# Altium schematic symbol library Schlib1.SchLib: 15 symbols
Pins are listed as number, name and electrical type; pins without a type are passive.

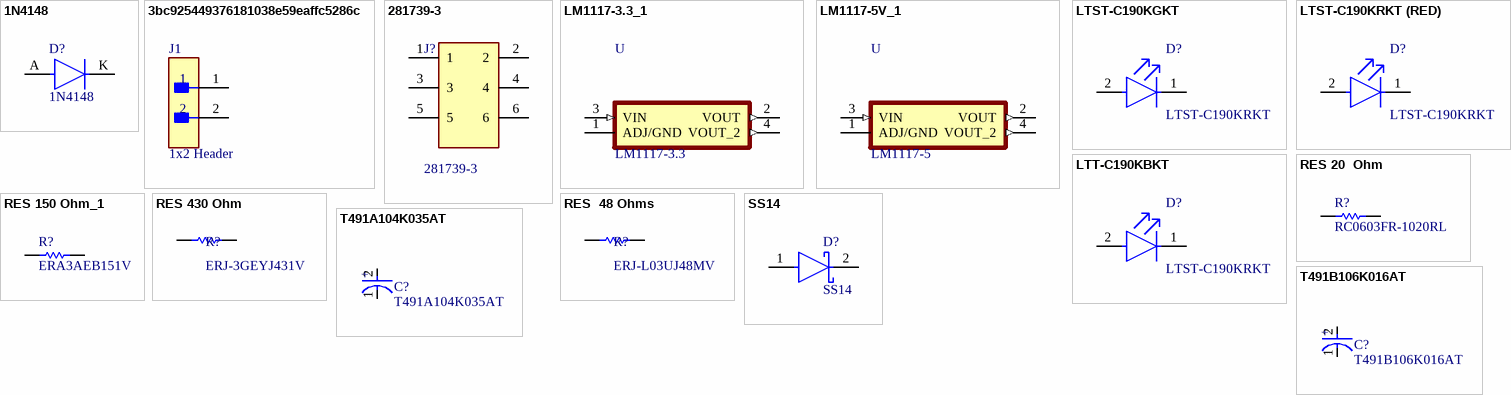
[diagram p0: symbols 1N4148 to T491B106K016AT]

## 1N4148
designator D?
DIODE GEN PURP 100V 200MA DO35; Forward Voltage: 1V; Max Power Dissipation: 500mW; Max Reverse Current: 5uA; Forward Current: 300mA; Current: 4A; Reverse Recovery Time: 4ns; Element Configuration: Single; Outside Diameter: 1.85mm; Capacitance: 4pF; Polarity: Standard; Max Forward Surge Current (Ifsm): 1A; Reverse Voltage: 100V; Output Current: 200mA; Average Rectified Current: 200mA; Diameter: 1.91mm; Max Repetitive Reverse Voltage (Vrrm): 100V; Current Rating: 200mA; Case/Package: DO-35; Lead Free: Lead Free; Number of Pins: 2; Recovery Time: 4ns; Packaging: Bulk; Contact Plating: Tin; Voltage: 100V; Mount: Through Hole; Max Surge Current: 4A; Package Quantity: 2000; Width: 1.91mm; Max Reverse Voltage (DC): 100V; Length: 4.56mm; Radiation Hardening: No; Power Dissipation: 500mW; Voltage Rating (DC): 100V; Peak Non-Repetitive Surge Current: 4A; REACH SVHC: No SVHC; Height: 4.56mm; Max Operating Temperature: 175°C; Series: -; Weight: 0.01lb; Min Operating Temperature: -65°C
footprint DIOAD753W49L380D172B
pins: A, K C

## 3bc925449376181038e59eaffc5286c
designator J1, comment 1x2 Header
CONN HEADER R/A 2POS 2MM; Max Current Rating: 3A; Number of Contacts: 2; Voltage Rating: 120V; Gender: Male; Contact Resistance: 25mR; Insulation Resistance: 100MR; Connector Type: Plug; Contact Material: Bronze; Radiation Hardening: No; Pitch: 2mm; Contact Plating: Gold; Package Quantity: 32; Current Rating: 3A; REACH SVHC: No SVHC; Housing Material: Polyamide; Max Operating Temperature: 125°C; Min Operating Temperature: -55°C; Number of Rows: 1; RoHS Compliant: Yes; Housing Color: Black; Fastening Type: Latch; Color: Black; Contact Gender: Male; Orientation: Right Angle; Number of Positions: 2; Case/Package: SIL; Length: 7.6mm; Max Voltage Rating (AC): 120V; Series: Datamate L-Tek; Packaging: Rail/Tube; Contact Type: Male Pin; Mount: Through Hole; Termination: Solder
footprint HARWIN_M80-8420242
pins: 1, 2

## 281739-3
designator J?
3X2 connector; Source: 281739-3.SchLib; MP: 281739-3; Pin Count: 6; Availability: Unavailable; Value: *; Package: None; Component Type: Standard; Price: None; Design Item ID: 281739-3
footprint SHDR6W65P254_2X3_762X762X1150P
pins: 1, 2, 3, 4, 5, 6

## LM1117-3.3_1
designator U, comment LM1117-3.3
SOT-223 LM1117-3.3; MF: Texas Instruments; Source: SnapEDAsch.SchLib; Availability: Unavailable; SnapEDA_Link: https://www.snapeda.com/parts/LM1117-3.3/Texas%20Instruments/view-part/549181/?ref=snap; Pin Count: 4; Design Item ID: LM1117-3.3; Value: *; Component Type: Standard; Package: SOT-223-4 Texas Instruments; Price: None; MP: LM1117-3.3
footprint SOT230
pins: 1 ADJ/GND, 2 VOUT (out), 3 VIN (in), 4 VOUT_2 (out)

## LM1117-5V_1
designator U, comment LM1117-5
SOT-223 LM1117-5; MF: Texas Instruments; MP: LM1117-3.3; Source: SnapEDAsch.SchLib; Availability: Unavailable; SnapEDA_Link: https://www.snapeda.com/parts/LM1117-3.3/Texas%20Instruments/view-part/549181/?ref=snap; Pin Count: 4; Design Item ID: LM1117-3.3; Value: *; Component Type: Standard; Package: SOT-223-4 Texas Instruments; Price: None
footprint SOT230
pins: 1 ADJ/GND, 2 VOUT (out), 3 VIN (in), 4 VOUT_2 (out)

## LTST-C190KGKT
designator D?, comment LTST-C190KRKT
LED GREEN CLEAR CHIP SMD; Color: Red; Reverse Voltage: 5V; Viewing Angle: 130°; Power Rating: 75mW; Test Current: 20mA; Number of Elements: 1; Lens Color: Colorless; Wavelength: 639nm; Dominant Wavelength: 631nm; Lens Style: Diffused; Forward Current: 30mA; Forward Voltage: 2.4V; Luminous Intensity: 54mcd; Case Code (Imperial): 0603; Lens Transparency: Clear; Lead Free: Lead Free; Package Quantity: 1; Packaging: Tape and Reel; Max Operating Temperature: 85°C; Number of Pins: 2; Height: 0.8mm; Case/Package: 0603; Number of LEDs: 1; Width: 0.8mm; Case Code (Metric): 1608; Depth: 0.8mm; Mount: Surface Mount; Radiation Hardening: No; Length: 1.6mm; Illumination Color: Red; Power Dissipation: 75mW; Min Operating Temperature: -55°C
footprint RESC1607X60N
pins: 1 C, 2 A

## LTST-C190KRKT (RED)
designator D?, comment LTST-C190KRKT
LED RED CLEAR CHIP SMD; Reverse Voltage: 5V; Viewing Angle: 130°; Power Rating: 75mW; Test Current: 20mA; Number of Elements: 1; Lens Color: Colorless; Wavelength: 639nm; Dominant Wavelength: 631nm; Lens Style: Diffused; Forward Current: 30mA; Forward Voltage: 2.4V; Luminous Intensity: 54mcd; Color: Red; Case Code (Imperial): 0603; Lens Transparency: Clear; Lead Free: Lead Free; Package Quantity: 1; Packaging: Tape and Reel; Max Operating Temperature: 85°C; Number of Pins: 2; Height: 0.8mm; Case/Package: 0603; Number of LEDs: 1; Width: 0.8mm; Case Code (Metric): 1608; Depth: 0.8mm; Mount: Surface Mount; Radiation Hardening: No; Length: 1.6mm; Illumination Color: Red; Power Dissipation: 75mW; Min Operating Temperature: -55°C
footprint LEDC1608X35N
pins: 1 C, 2 A

## LTT-C190KBKT
designator D?, comment LTST-C190KRKT
LED BLUE CLEAR CHIP SMD; Color: Red; Reverse Voltage: 5V; Viewing Angle: 130°; Power Rating: 75mW; Test Current: 20mA; Number of Elements: 1; Lens Color: Colorless; Wavelength: 639nm; Dominant Wavelength: 631nm; Lens Style: Diffused; Forward Current: 30mA; Forward Voltage: 2.4V; Luminous Intensity: 54mcd; Case Code (Imperial): 0603; Lens Transparency: Clear; Lead Free: Lead Free; Package Quantity: 1; Packaging: Tape and Reel; Max Operating Temperature: 85°C; Number of Pins: 2; Height: 0.8mm; Case/Package: 0603; Number of LEDs: 1; Width: 0.8mm; Case Code (Metric): 1608; Depth: 0.8mm; Mount: Surface Mount; Radiation Hardening: No; Length: 1.6mm; Illumination Color: Red; Power Dissipation: 75mW; Min Operating Temperature: -55°C
footprint RESC1607X60N
pins: 1 C, 2 A

## RES 20  Ohm
designator R?, comment RC0603FR-1020RL
20 ohm resistor SMD 0603; Manufacturer: YAGEO; Part Number: RC0603FR-1020RL
footprint RESC1607X60N
pins: 1, 2
1 alternate drawing of the same symbol

## RES 150 Ohm_1
designator R?, comment ERA3AEB151V
150 ohm resistor SMD 0603; Manufacturer: Panasonic; Part Number: ERA3AEB151V
footprint RESC1607X60N
pins: 1, 2
1 alternate drawing of the same symbol

## RES 430 Ohm
designator R?, comment ERJ-3GEYJ431V
430 Ohm SMD 0603 Resistor; Manufacturer: Panasonic; Part Number: ERJ-3GEYJ431V
footprint RESC1607X60N
pins: 1, 2
1 alternate drawing of the same symbol

## RES  48 Ohms
designator R?, comment ERJ-L03UJ48MV
Resistor 48 Ohms SMD 0603; Manufacturer: Panasonic; Part Number: ERJ-L03UJ48MV
footprint RESC1607X60N
pins: 1, 2
1 alternate drawing of the same symbol

## SS14
designator D?
DIODE SCHOTTKY 40V 1A SMA; Manufacturer: ON Semiconductor; Peak Reverse Current: 0.2mA; Max Junction Temp: +125°C; Standoff Height: 0.05mm; Max Surge Forward Current: 40A; Mouser Description: Schottky Diodes & Rectifiers SMA 40V 1.0A; RoHS: TRUE; Lead Free: Yes; Manufacturer Part Number: SS14; Device Class L3: Schottky Diodes; Category: Diode; Automotive: No; Digikey Description: DIODE SCHOTTKY 40V 1A SMA; ComponentLink2Description: Datasheet; Device Class L2: Diodes; Height: 2.5mm; Temperature Range High: +125°C; ComponentLink2URL: https://www.onsemi.com/pub/Collateral/SS19-D.PDF; Device Class L1: Discrete Semiconductors; Package: 403AE; Octopart: https://octopart.com/ss14-on+semiconductor-29205033; Max Repetitive Reverse Voltage: 40V; Temperature Range Low: -65°C; Forward Current: 1A; Temperature: -65°C to +125°C
footprint DIOM5227X270N
pins: 1 A, 2 C

## T491A104K035AT
designator C?
CAP TANT 0.1UF 10% 35V 1206; Dissipation Factor: 4%; ESR (Equivalent Series Resistance): 20R; Polarity: Polar; Dielectric Material: Tantalum; Leakage Current: 500nA; Ripple Current: 61mA; Life (Hours): 2000Hour; Capacitance: 100nF; Width: 1.6mm; Radiation Hardening: No; Lead Free: Lead Free; Case Code (Metric): 3216; REACH SVHC: No SVHC; Termination: SMD/SMT; Tolerance: 10%; Height - Seated (Max): 0.071inch; Series: T491; Features: General Purpose; Lead Pitch: 1.2mm; RoHS Compliant: Yes; Number of Pins: 2; Voltage: 35V; Packaging: Tape and Reel; Depth: 1.6mm; Length: 3.2mm; Case Code (Imperial): 1206; Construction: Flat; Min Operating Temperature: -55°C; Max Operating Temperature: 125°C; Height: 1.6mm; Voltage Rating: 35V; Case/Package: 1206; Package Quantity: 1; Weight: 0.000571oz; Size: 1.6mm; Voltage Rating (DC): 35V; Mount: Surface Mount
footprint CAPC3216X110N
pins: 1 C, 2 A
text: +

## T491B106K016AT
designator C?
CAP TANT 10UF 10% 16V 1411; Dissipation Factor: 6%; ESR (Equivalent Series Resistance): 2.8R; Ripple Current: 174mA; Dielectric Material: Tantalum; Leakage Current: 1.6uA; Polarity: Polar; Life (Hours): 2000Hour; Case/Package: 1411; Height - Seated (Max): 0.083inch; Case Code (Metric): 3528; Height: 1.9mm; Packaging: Tape and Reel; RoHS Compliant: Yes; Voltage Rating (DC): 16V; Tolerance: 10%; Lead Pitch: 1.9mm; Min Operating Temperature: -55°C; Package Quantity: 1; Capacitance: 10uF; Mount: Surface Mount; Length: 3.5mm; Max Operating Temperature: 125°C; Number of Pins: 2; Voltage: 16V; Voltage Rating: 16V; Termination: SMD/SMT; Depth: 2.8mm; Lead Free: Lead Free; REACH SVHC: No SVHC; Case Code (Imperial): 1411; Width: 0.11inch; Features: General Purpose
footprint RESC3216X125N
pins: 1 C, 2 A
text: +